# Altium footprint library CPAV.PcbLib: 150 footprints (part 3 of 10)
Each footprint in its own frame and in the unit in brackets; x right, y up, seen from the top. Pads: shape width x height; smd on the part's side, far side on the other; paste and mask are expansions set on the pad; w line width, h text height; cw(c..) or ccw(c..) is an arc to the next point about the centre after c.
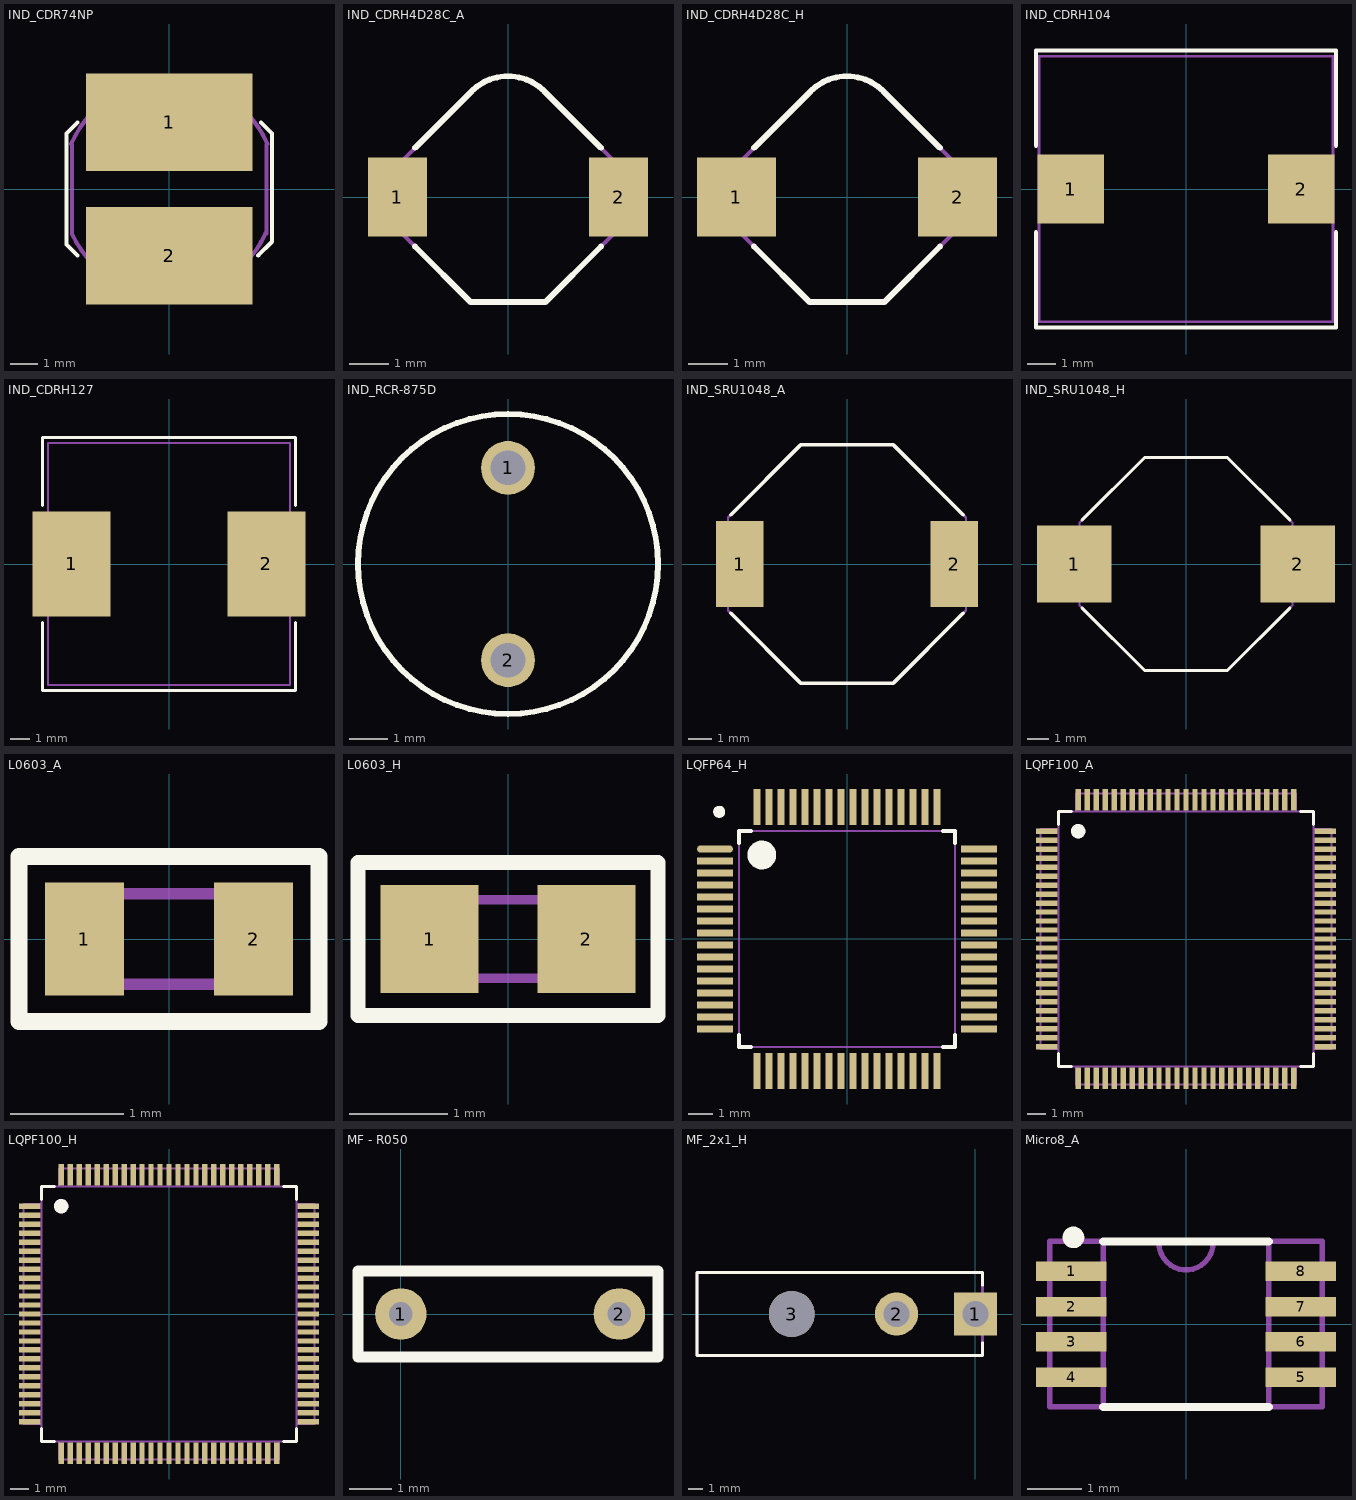
[diagram p2: the footprints below, top view; thin cyan lines are the x and y axes]

## IND_CDR74NP [mm]
pads (2):
  rect 6x3.5 smd: 1(0,2.4) 2(0,-2.4)
Top Overlay:
  lines w0.15: -3.3,-2.4 -3.7,-2 -3.7,-1.9 -3.7,1.9 -3.7,2 -3.3,2.4 ; 3.3,2.4 3.7,2 3.7,1.9 3.7,-1.9 3.2,-2.4 ; 3.2,-2.4 3.2,-2.4
Mechanical 7:
  lines w0.15: -3.534,1.615 cw(c0,0.087) 3.534,1.615 ; -3.509,-1.611 ccw(c-0.022,0.022) 3.475,-1.588 ; -3.5,-1.6 -3.5,1.6 ; 3.5,-1.6 3.5,1.6
3D body: height 4.5, standoff 0, extent -3.819,-3.842 3.85,3.843

## IND_CDRH4D28C_A [mm]
height 3
pads (2):
  rect 1.5x2 smd: 1(-2.8,0) 2(2.8,0)
Top Overlay:
  lines w0.15: -2.356,-1.25 -0.955,-2.652 0.955,-2.652 2.356,-1.25 ; -2.353,1.253 -0.919,2.687 cw(c0,1.768) 0.919,2.687 2.353,1.253
Mechanical 7:
  lines w0.1: -2.899,-0.707 -2.899,0.707 -0.919,2.687 cw(c0,1.768) 0.919,2.687 2.899,0.707 2.899,-0.707 0.955,-2.652 -0.955,-2.652 -2.899,-0.707
Mechanical 10:
  text ".Designator" at -0.985,0.265 h0.8
  text ".Comment" at -0.985,-0.425 h0.6
3D body: height 3, standoff 0, extent -2.899,-2.652 2.899,2.687
3D body: height 3, standoff 0, extent -1.29,0.47 1.3,3.065

## IND_CDRH4D28C_H [mm]
height 3
pads (2):
  rect 2x2 smd: 1(-2.8,0) 2(2.8,0)
Top Overlay:
  lines w0.15: -2.356,-1.25 -0.955,-2.652 0.955,-2.652 2.356,-1.25 ; -2.353,1.253 -0.919,2.687 cw(c0,1.768) 0.919,2.687 2.353,1.253
Mechanical 7:
  lines w0.1: -2.899,-0.707 -0.955,-2.652 0.955,-2.652 2.899,-0.707 2.899,0.707 0.919,2.687 ccw(c0,1.768) -0.919,2.687 -2.899,0.707 -2.899,-0.707
Mechanical 10:
  text ".Comment" at -0.985,-0.425 h0.6
  text ".Designator" at -0.985,0.265 h0.8
3D body: height 3, standoff 0, extent -1.29,0.47 1.3,3.065
3D body: height 3, standoff 0, extent -2.899,-2.652 2.899,2.687

## IND_CDRH104 [mm]
pads (2):
  rect 2.3x2.4 smd: 1(-4,0) 2(4,0)
Top Overlay:
  lines w0.15: -5.2,-1.5 -5.2,-4.8 5.2,-4.8 5.2,-1.5 ; -5.2,1.5 -5.2,4.8 5.2,4.8 5.2,1.5
Mechanical 7:
  lines w0.1: -5.1,-4.6 5.1,-4.6 5.1,4.6 -5.1,4.6 -5.1,-4.6
Mechanical 10:
  text ".Designator" at -1.5,5.5 h0.8
  text ".Comment" at -1.1,-6.1 h0.6
3D body: height 5, standoff 0.2, extent -5.1,-4.6 5.1,4.6

## IND_CDRH127 [mm]
pads (2):
  rect 4x5.4 smd: 1(-5,0) 2(5,0)
Top Overlay:
  lines w0.15: -6.5,-3 -6.5,-6.5 6.5,-6.5 6.5,-3 ; -6.5,3 -6.5,6.5 6.5,6.5 6.5,3
Mechanical 7:
  lines w0.1: -6.2,-6.2 -6.2,6.2 6.2,6.2 6.2,-6.2 -6.2,-6.2
Mechanical 10:
  text ".Comment" at -1.1,-6.1 h0.6
  text ".Designator" at -1.5,5.5 h0.8
3D body: height 8, standoff 0.2, extent -6.2,-6.2 6.2,6.2

## IND_RCR-875D [mm]
height 7.5
pads (2):
  round 1.4 hole 0.9: 1(0,2.5) 2(0,-2.5)
Top Overlay:
  circle w0.15: c0,0 r3.9
Mechanical 7:
  circle w0.1: c0,0 r3.9
Mechanical 10:
  text ".Comment" at -1.245,4.335 h0.6
  text ".Designator" at -1.255,4.905 h0.8
3D body: height 7.5, standoff 0, extent -3.869,-3.892 3.9,3.892

## IND_SRU1048_A [mm]
height 5.1
pads (2):
  rect 2x3.6 smd: 1(-4.5,0) 2(4.5,0)
Top Overlay:
  lines w0.15: -4.875,-2.075 -1.95,-5 1.95,-5 4.875,-2.075 ; -4.875,2.075 -1.95,5 1.95,5 4.875,2.075
Mechanical 7:
  lines w0.1: -5,-1.95 -5,1.95 -1.95,5 1.95,5 5,1.95 5,-1.95 1.95,-5 -1.95,-5 -5,-1.95
Mechanical 10:
  text ".Comment" at -1.235,5.625 h0.6
  text ".Designator" at -1.235,6.315 h0.8
3D body: height 5.1, standoff 0, extent -5,-5 5,5

## IND_SRU1048_H [mm]
height 5.1
pads (2):
  rect 3.5x3.6 smd: 1(-5.25,0) 2(5.25,0)
Top Overlay:
  lines w0.15: -4.875,-2.075 -1.95,-5 1.95,-5 4.875,-2.075 ; -4.875,2.075 -1.95,5 1.95,5 4.875,2.075
Mechanical 7:
  lines w0.1: -5,-1.95 -5,1.95 -1.95,5 1.95,5 5,1.95 5,-1.95 1.95,-5 -1.95,-5 -5,-1.95
Mechanical 10:
  text ".Comment" at -1.235,5.625 h0.6
  text ".Designator" at -1.235,6.315 h0.8
3D body: height 5.1, standoff 0, extent -5,-5 5,5

## L0603_A [mm]
height 0.8
pads (2):
  rect 0.7x1 smd: 1(-0.75,0) 2(0.75,0)
Top Overlay:
  lines w0.15: -1.33,-0.73 1.33,-0.73 1.33,0.73 -1.33,0.73 -1.33,-0.73
Mechanical 7:
  lines w0.1: -0.8,-0.4 -0.8,0.4 0.8,0.4 0.8,-0.4 -0.8,-0.4
Mechanical 10:
  text ".Designator" at -0.62,1 h0.8
  text ".Comment" at -0.75,-1.28 h0.6
3D body: height 0.8, standoff 0, extent -0.8,-0.4 0.8,0.4

## L0603_H [mm]
height 0.8
pads (2):
  rect 1x1.1 smd: 1(-0.8,0) 2(0.8,0)
Top Overlay:
  lines w0.15: -1.53,-0.78 -1.53,0.78 1.53,0.78 1.53,-0.78 -1.53,-0.78
Mechanical 7:
  lines w0.1: -0.8,-0.4 0.8,-0.4 0.8,0.4 -0.8,0.4 -0.8,-0.4
Mechanical 10:
  text ".Designator" at -0.62,1 h0.8
  text ".Comment" at -0.61,-1.33 h0.6
3D body: height 0.8, standoff 0, extent -0.8,-0.4 0.8,0.4

## LQFP64_H [mm] "64-Pin Low Profile Quad Pack 0.5 mm Pitch, IPC High Density"
height 1.6
pads (64):
  oval 1.5x0.3 smd mask+0.05: 1(-5.5,3.75)
  rect 1.5x0.3 smd mask+0.05: 2(-5.5,3.25) 3(-5.5,2.75) 4(-5.5,2.25) 5(-5.5,1.75) 6(-5.5,1.25) 7(-5.5,0.75) 8(-5.5,0.25) 9(-5.5,-0.25) 10(-5.5,-0.75) 11(-5.5,-1.25) 12(-5.5,-1.75) 13(-5.5,-2.25) 14(-5.5,-2.75) 15(-5.5,-3.25) 16(-5.5,-3.75) 33(5.5,-3.75) 34(5.5,-3.25) 35(5.5,-2.75) 36(5.5,-2.25) 37(5.5,-1.75) 38(5.5,-1.25) 39(5.5,-0.75) 40(5.5,-0.25) 41(5.5,0.25) 42(5.5,0.75) 43(5.5,1.25) 44(5.5,1.75) 45(5.5,2.25) 46(5.5,2.75) 47(5.5,3.25) 48(5.5,3.75)
  rect 0.3x1.5 smd mask+0.05: 17(-3.75,-5.5) 18(-3.25,-5.5) 19(-2.75,-5.5) 20(-2.25,-5.5) 21(-1.75,-5.5) 22(-1.25,-5.5) 23(-0.75,-5.5) 24(-0.25,-5.5) 25(0.25,-5.5) 26(0.75,-5.5) 27(1.25,-5.5) 28(1.75,-5.5) 29(2.25,-5.5) 30(2.75,-5.5) 31(3.25,-5.5) 32(3.75,-5.5) 49(3.75,5.5) 50(3.25,5.5) 51(2.75,5.5) 52(2.25,5.5) 53(1.75,5.5) 54(1.25,5.5) 55(0.75,5.5) 56(0.25,5.5) 57(-0.25,5.5) 58(-0.75,5.5) 59(-1.25,5.5) 60(-1.75,5.5) 61(-2.25,5.5) 62(-2.75,5.5) 63(-3.25,5.5) 64(-3.75,5.5)
Top Overlay:
  circle w0.25: c-5.325,5.3 r0.125
  circle w0.6: c-3.55,3.5 r0.3
  lines w0.15: -4.5,-4 -4.5,-4.5 -4,-4.5 ; -4.5,4 -4.5,4.5 -4,4.5 ; 4,-4.5 4.5,-4.5 4.5,-4 ; 4,4.5 4.5,4.5 4.5,4
Mechanical 7:
  lines w0.1: -4.5,-4.5 -4.5,4.5 4.5,4.5 4.5,-4.5 -4.5,-4.5
3D body "User Library-lqpf64.step": height 1.5, standoff 0.02, extent -6,-6 6,6

## LQPF100_A [mm]
height 1.6
pads (100):
  rect 1.2x0.3 smd: 1(-7.75,6) 2(-7.75,5.5) 3(-7.75,5) 4(-7.75,4.5) 5(-7.75,4) 6(-7.75,3.5) 7(-7.75,3) 8(-7.75,2.5) 9(-7.75,2) 10(-7.75,1.5) 11(-7.75,1) 12(-7.75,0.5) 13(-7.75,0) 14(-7.75,-0.5) 15(-7.75,-1) 16(-7.75,-1.5) 17(-7.75,-2) 18(-7.75,-2.5) 19(-7.75,-3) 20(-7.75,-3.5) 21(-7.75,-4) 22(-7.75,-4.5) 23(-7.75,-5) 24(-7.75,-5.5) 25(-7.75,-6) 51(7.75,-6) 52(7.75,-5.5) 53(7.75,-5) 54(7.75,-4.5) 55(7.75,-4) 56(7.75,-3.5) 57(7.75,-3) 58(7.75,-2.5) 59(7.75,-2) 60(7.75,-1.5) 61(7.75,-1) 62(7.75,-0.5) 63(7.75,0) 64(7.75,0.5) 65(7.75,1) 66(7.75,1.5) 67(7.75,2) 68(7.75,2.5) 69(7.75,3) 70(7.75,3.5) 71(7.75,4) 72(7.75,4.5) 73(7.75,5) 74(7.75,5.5) 75(7.75,6)
  rect 0.3x1.2 smd: 26(-6,-7.75) 27(-5.5,-7.75) 28(-5,-7.75) 29(-4.5,-7.75) 30(-4,-7.75) 31(-3.5,-7.75) 32(-3,-7.75) 33(-2.5,-7.75) 34(-2,-7.75) 35(-1.5,-7.75) 36(-1,-7.75) 37(-0.5,-7.75) 38(0,-7.75) 39(0.5,-7.75) 40(1,-7.75) 41(1.5,-7.75) 42(2,-7.75) 43(2.5,-7.75) 44(3,-7.75) 45(3.5,-7.75) 46(4,-7.75) 47(4.5,-7.75) 48(5,-7.75) 49(5.5,-7.75) 50(6,-7.75) 76(6,7.75) 77(5.5,7.75) 78(5,7.75) 79(4.5,7.75) 80(4,7.75) 81(3.5,7.75) 82(3,7.75) 83(2.5,7.75) 84(2,7.75) 85(1.5,7.75) 86(1,7.75) 87(0.5,7.75) 88(0,7.75) 89(-0.5,7.75) 90(-1,7.75) 91(-1.5,7.75) 92(-2,7.75) 93(-2.5,7.75) 94(-3,7.75) 95(-3.5,7.75) 96(-4,7.75) 97(-4.5,7.75) 98(-5,7.75) 99(-5.5,7.75) 100(-6,7.75)
Top Overlay:
  circle w0.4: c-6,6 r0.2
  lines w0.15: -7.1,-6.375 -7.1,-7.1 -6.375,-7.1 ; -7.1,6.375 -7.1,7.1 -6.375,7.1 ; 6.375,-7.1 7.1,-7.1 7.1,-6.375 ; 6.375,7.1 7.1,7.1 7.1,6.375
Mechanical 7:
  circle w0.4: c-6,6 r0.2
  lines w0.1: -7.1,-6.135 -8.1,-6.135 -8.1,6.135 -7.1,6.135 ; -6.135,-7.1 -6.135,-8.1 6.135,-8.1 6.135,-7.1 ; -6.135,7.1 -6.135,8.1 6.135,8.1 6.135,7.1 ; 7.1,-6.135 8.1,-6.135 8.1,6.135 7.1,6.135 ; -7.1,-7.1 -7.1,7.1 7.1,7.1 7.1,-7.1 -7.1,-7.1
Mechanical 10:
  text ".Comment" at -1.08,-0.495 h0.6
  text ".Designator" at -1.2,0.155 h0.8
3D body: height 1.6, standoff 0, extent -7.1,-7.1 7.1,7.1
3D body: height 0.9, standoff 0, extent -6.135,7.1 6.135,8.1
3D body: height 0.9, standoff 0, extent -8.1,-6.135 -7.1,6.135
3D body: height 0.9, standoff 0, extent 7.1,-6.135 8.1,6.135
3D body: height 0.9, standoff 0, extent -6.135,-8.1 6.135,-7.1

## LQPF100_H [mm]
height 1.6
pads (100):
  rect 1.2x0.3 smd: 1(-7.75,6) 2(-7.75,5.5) 3(-7.75,5) 4(-7.75,4.5) 5(-7.75,4) 6(-7.75,3.5) 7(-7.75,3) 8(-7.75,2.5) 9(-7.75,2) 10(-7.75,1.5) 11(-7.75,1) 12(-7.75,0.5) 13(-7.75,0) 14(-7.75,-0.5) 15(-7.75,-1) 16(-7.75,-1.5) 17(-7.75,-2) 18(-7.75,-2.5) 19(-7.75,-3) 20(-7.75,-3.5) 21(-7.75,-4) 22(-7.75,-4.5) 23(-7.75,-5) 24(-7.75,-5.5) 25(-7.75,-6) 51(7.75,-6) 52(7.75,-5.5) 53(7.75,-5) 54(7.75,-4.5) 55(7.75,-4) 56(7.75,-3.5) 57(7.75,-3) 58(7.75,-2.5) 59(7.75,-2) 60(7.75,-1.5) 61(7.75,-1) 62(7.75,-0.5) 63(7.75,0) 64(7.75,0.5) 65(7.75,1) 66(7.75,1.5) 67(7.75,2) 68(7.75,2.5) 69(7.75,3) 70(7.75,3.5) 71(7.75,4) 72(7.75,4.5) 73(7.75,5) 74(7.75,5.5) 75(7.75,6)
  rect 0.3x1.2 smd: 26(-6,-7.75) 27(-5.5,-7.75) 28(-5,-7.75) 29(-4.5,-7.75) 30(-4,-7.75) 31(-3.5,-7.75) 32(-3,-7.75) 33(-2.5,-7.75) 34(-2,-7.75) 35(-1.5,-7.75) 36(-1,-7.75) 37(-0.5,-7.75) 38(0,-7.75) 39(0.5,-7.75) 40(1,-7.75) 41(1.5,-7.75) 42(2,-7.75) 43(2.5,-7.75) 44(3,-7.75) 45(3.5,-7.75) 46(4,-7.75) 47(4.5,-7.75) 48(5,-7.75) 49(5.5,-7.75) 50(6,-7.75) 76(6,7.75) 77(5.5,7.75) 78(5,7.75) 79(4.5,7.75) 80(4,7.75) 81(3.5,7.75) 82(3,7.75) 83(2.5,7.75) 84(2,7.75) 85(1.5,7.75) 86(1,7.75) 87(0.5,7.75) 88(0,7.75) 89(-0.5,7.75) 90(-1,7.75) 91(-1.5,7.75) 92(-2,7.75) 93(-2.5,7.75) 94(-3,7.75) 95(-3.5,7.75) 96(-4,7.75) 97(-4.5,7.75) 98(-5,7.75) 99(-5.5,7.75) 100(-6,7.75)
Top Overlay:
  circle w0.4: c-6,6 r0.2
  lines w0.15: -7.1,-6.375 -7.1,-7.1 -6.375,-7.1 ; -7.1,6.375 -7.1,7.1 -6.375,7.1 ; 6.375,-7.1 7.1,-7.1 7.1,-6.375 ; 6.375,7.1 7.1,7.1 7.1,6.375
Mechanical 7:
  circle w0.4: c-6,6 r0.2
  lines w0.1: -7.1,-6.135 -8.1,-6.135 -8.1,6.135 -7.1,6.135 ; -6.135,-7.1 -6.135,-8.1 6.135,-8.1 6.135,-7.1 ; -6.135,7.1 -6.135,8.1 6.135,8.1 6.135,7.1 ; 7.1,-6.135 8.1,-6.135 8.1,6.135 7.1,6.135 ; -7.1,-7.1 -7.1,7.1 7.1,7.1 7.1,-7.1 -7.1,-7.1
Mechanical 10:
  text ".Comment" at -1.08,-0.495 h0.6
  text ".Designator" at -1.2,0.155 h0.8
3D body: height 1.6, standoff 0, extent -7.1,-7.1 7.1,7.1
3D body: height 0.9, standoff 0, extent -6.135,7.1 6.135,8.1
3D body: height 0.9, standoff 0, extent -8.1,-6.135 -7.1,6.135
3D body: height 0.9, standoff 0, extent 7.1,-6.135 8.1,6.135
3D body: height 0.9, standoff 0, extent -6.135,-8.1 6.135,-7.1

## MF - R050 [mm] "Самовосстанавливающийся предохранитель"
pads (2):
  round 1.2 hole 0.55: 1(0,0) 2(5.1,0)
Top Overlay:
  lines w0.254: -1,-1 -1,1 6,1 6,-1 -1,-1

## MF_2x1_H [mm]
pads (3):
  rect 3x3 hole 1.8 mask+0: 1(0,0)
  round 3 hole 1.8 mask+0: 2(-5.5,0)
  round 3.2 hole 3.2 mask+0: 3(-12.8,0)
Top Overlay:
  lines w0.2: 0.5,-2 0.5,-2.9 -19.4,-2.9 -19.4,2.9 0.5,2.9 0.5,2
Mechanical 7:
  lines w0.2: -19.4,-2.9 0.5,-2.9 0.5,2.9 -19.4,2.9 -19.4,-2.9
Mechanical 10:
  text ".Designator" at -2.67,3.04 h0.8
  text ".Comment" at -2,-3.6 h0.6
3D body "026013101.stp": height 11.4, standoff -3.6, extent -19.435,-2.9 0.5,2.9

## Micro8_A [mm]
height 1.11
pads (8):
  rect 1.3x0.36 smd: 1(-2.115,0.975) 2(-2.115,0.325) 3(-2.115,-0.325) 4(-2.115,-0.975) 5(2.115,-0.975) 6(2.115,-0.325) 7(2.115,0.325) 8(2.115,0.975)
Top Overlay:
  circle w0.2: c-2.075,1.6 r0.1
  lines w0.15: -1.525,-1.525 1.525,-1.525 ; -1.525,1.525 1.525,1.525
Mechanical 7:
  lines w0.1: -1.525,-1.525 -1.525,1.525 ; -0.499,1.525 ccw(c0,1.5) 0.499,1.525 ; 1.525,-1.525 1.525,1.525 ; -2.515,-1.525 -2.515,1.525 2.515,1.525 2.515,-1.525 -2.515,-1.525
Mechanical 10:
  text ".Comment" at -0.67,-2.26 h0.6
  text ".Designator" at -0.67,2.04 h0.8
3D body: height 0.7, standoff 0, extent -2.515,-1.525 -1.525,1.525
3D body: height 0.7, standoff 0, extent 1.525,-1.525 2.515,1.525
3D body: height 1.11, standoff 0, extent -1.525,-1.525 1.525,1.525